# Altium schematic symbol library Schottky Diode SS32.SchLib: 1 symbol
Pins are listed as number, name and electrical type; pins without a type are passive.

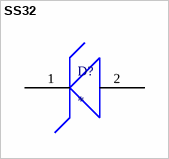
[diagram p0: symbol SS32]

## SS32
designator D?
Schottky Diode 20V 3A
footprint Schottly Diode SS32 footprint
pins: 1 Cathode (+), 2 Anode (-)